# Altium footprint library pcbLib.PcbLib: 7 footprints
Each footprint in its own frame and in the unit in brackets; x right, y up, seen from the top. Pads: shape width x height; smd on the part's side, far side on the other; paste and mask are expansions set on the pad; w line width, h text height; cw(c..) or ccw(c..) is an arc to the next point about the centre after c.
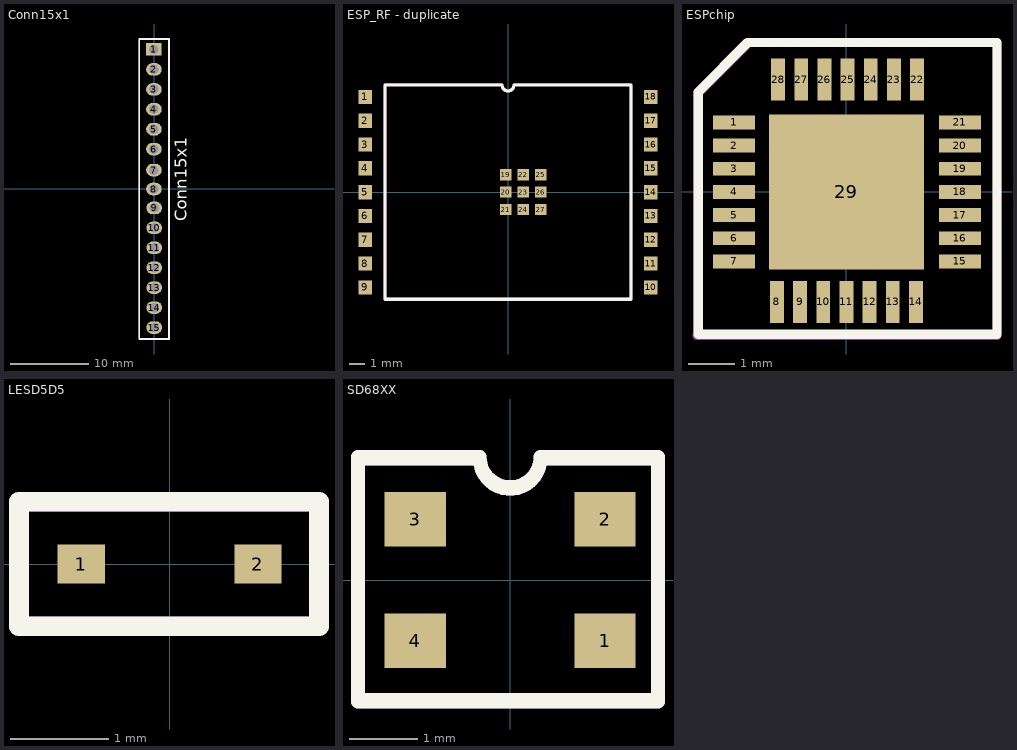
[diagram p0: the footprints below, top view; thin cyan lines are the x and y axes]

## C210CN [mm]

## Conn15x1 [mm]
pads (15):
  rect 2x1.6 hole 1.2: 1(-0.02,17.716)
  oval 2x1.6 hole 1.2: 2(-0.02,15.176) 3(-0.02,12.636) 4(-0.02,10.096) 5(-0.02,7.556) 6(-0.02,5.016) 7(-0.02,2.349) 8(-0.02,-0.064) 9(0.02,-2.476) 10(0.02,-5.016) 11(0.02,-7.556) 12(0.02,-10.096) 13(0.02,-12.636) 14(0.02,-15.176) 15(0.02,-17.716)
Top Overlay:
  lines w0.2: -1.905,-19.177 -1.905,19.05 1.905,19.05 1.905,-19.177 -1.905,-19.177
  text "Conn15x1" at 4.191,-4.191 h1.52
Top Assembly:
  lines w0.2: -1.905,-19.177 -1.905,19.05 1.905,19.05 1.905,-19.177 -1.905,-19.177
  text ".Designator" at 0.508,-7.366 h1.52
3D body "Pin Header 1x1 TH Pitch 2.54mm.stp": height 3.2, standoff -9.5, extent -1.29,-19.113 1.25,-16.573
3D body "Pin Header 1x1 TH Pitch 2.54mm.stp": height 3.2, standoff -9.5, extent -1.29,-16.573 1.25,-14.034
3D body "Pin Header 1x1 TH Pitch 2.54mm.stp": height 3.2, standoff -9.5, extent -1.29,-14.034 1.25,-11.493
3D body "Pin Header 1x1 TH Pitch 2.54mm.stp": height 3.2, standoff -9.5, extent -1.29,-11.493 1.25,-8.954
3D body "Pin Header 1x1 TH Pitch 2.54mm.stp": height 3.2, standoff -9.5, extent -1.29,-8.954 1.25,-6.413
3D body "Pin Header 1x1 TH Pitch 2.54mm.stp": height 3.2, standoff -9.5, extent -1.29,-6.413 1.25,-3.873
3D body "Pin Header 1x1 TH Pitch 2.54mm.stp": height 3.2, standoff -9.5, extent -1.29,-3.873 1.25,-1.333
3D body "Pin Header 1x1 TH Pitch 2.54mm.stp": height 3.2, standoff -9.5, extent -1.29,-1.333 1.25,1.206
3D body "Pin Header 1x1 TH Pitch 2.54mm.stp": height 3.2, standoff -9.5, extent -1.29,1.206 1.25,3.746
3D body "Pin Header 1x1 TH Pitch 2.54mm.stp": height 3.2, standoff -9.5, extent -1.29,3.746 1.25,6.286
3D body "Pin Header 1x1 TH Pitch 2.54mm.stp": height 3.2, standoff -9.5, extent -1.29,6.286 1.25,8.826
3D body "Pin Header 1x1 TH Pitch 2.54mm.stp": height 3.2, standoff -9.5, extent -1.29,8.826 1.25,11.367
3D body "Pin Header 1x1 TH Pitch 2.54mm.stp": height 3.2, standoff -9.5, extent -1.29,11.367 1.25,13.906
3D body "Pin Header 1x1 TH Pitch 2.54mm.stp": height 3.2, standoff -9.5, extent -1.29,13.906 1.25,16.447
3D body "Pin Header 1x1 TH Pitch 2.54mm.stp": height 3.2, standoff -9.5, extent -1.29,16.447 1.25,18.986

## ESP_chip [mm]

## ESP_RF - duplicate [mm]
pads (27):
  rect 0.85x0.9 smd: 1(-9,6) 2(-9,4.5) 3(-9,3) 4(-9,1.5) 5(-9,0) 6(-9,-1.5) 7(-9,-3) 8(-9,-4.5) 9(-9,-6) 10(9,-6) 11(9,-4.5) 12(9,-3) 13(9,-1.5) 14(9,0) 15(9,1.5) 16(9,3) 17(9,4.5) 18(9,6)
  rect 0.7x0.7 smd: 19(-0.14,1.1) 20(-0.14,0) 21(-0.14,-1.1) 22(0.96,1.1) 23(0.96,0) 24(0.96,-1.1) 25(2.06,1.1) 26(2.06,0) 27(2.06,-1.1)
Top Overlay:
  lines w0.2: -7.74,-6.75 -7.74,6.75 -0.375,6.75 ccw(c0,6.75) 0.375,6.75 7.74,6.75 7.74,-6.75 -7.74,-6.75
Top Assembly:
  lines w0.2: -7.74,-6.725 -7.74,6.775 -0.375,6.775 ccw(c0,6.775) 0.375,6.775 7.74,6.775 7.74,-6.725 -7.74,-6.725
3D body "ESP32-C3-WROOM-02.STEP": height 3.25, standoff -0.01, extent -9.01,-6.725 9.01,13.275

## ESPchip [mm]
pads (29):
  rect 0.9x0.3 smd paste+0 mask+0.02: 1(-2.426,1.5) 2(-2.426,1) 3(-2.426,0.5) 4(-2.426,0) 5(-2.426,-0.5) 6(-2.426,-1) 7(-2.426,-1.5) 15(2.451,-1.5) 16(2.451,-1) 17(2.451,-0.5) 18(2.451,0) 19(2.451,0.5) 20(2.451,1) 21(2.451,1.5)
  rect 0.3x0.9 smd paste+0 mask+0.02: 8(-1.5,-2.375) 9(-1,-2.375) 10(-0.5,-2.375) 11(0,-2.375) 12(0.5,-2.375) 13(1,-2.375) 14(1.5,-2.375) 22(1.525,2.426) 23(1.025,2.426) 24(0.525,2.426) 25(0.025,2.426) 26(-0.475,2.426) 27(-0.975,2.426) 28(-1.475,2.426)
  rect 3.35x3.35 smd paste+0 mask+0.02: 29(0,0)
Top Overlay:
  lines w0.2: -3.2,-3.073 3.251,-3.073 3.251,3.226 -2.134,3.226 -3.2,2.159 -3.2,-3.073
Top Assembly:
  lines w0.2: -3.225,-3.099 -3.2,-3.048 -3.2,-0.791 -3.2,2.134 -2.108,3.226 3.251,3.226 3.251,-3.099 -3.225,-3.099
3D body "QFN28_5X5_SIL.step": height 0.81, standoff 0, extent -2.515,-2.501 2.489,2.503

## LESD5D5 [mm]
pads (2):
  rect 0.48x0.4 smd: 1(-0.9,0) 2(0.9,0)
Top Overlay:
  lines w0.2: -1.535,-0.635 -1.535,0 -1.535,0.635 ; -1.524,-0.635 1.524,-0.635 1.524,0.635 -1.524,0.635
Top Assembly:
  lines w0.2: -1.535,-0.635 -1.535,0 -1.535,0.635 ; -1.524,-0.635 1.524,-0.635 1.524,0.635 -1.524,0.635
3D body: height 0.6, standoff 0.03, extent -0.686,-0.508 0.686,0.483
3D body: height 0.14, standoff 0, extent 0.686,-0.178 1.118,0.178
3D body: height 0.14, standoff 0, extent -1.118,-0.178 -0.686,0.178

## SD68XX [mm]
pads (4):
  rect 0.9x0.8 smd: 1(1.39,-0.89) 2(1.39,0.89) 3(-1.39,0.89) 4(-1.39,-0.89)
Top Overlay:
  lines w0.2: -2.228,-1.78 -2.228,1.78 -0.445,1.78 ccw(c0,1.78) 0.445,1.78 2.166,1.78 2.166,-1.78 -2.228,-1.78 ; -2.228,-1.755 -2.228,1.805 -0.445,1.805 ccw(c0,1.805) 0.445,1.805 2.166,1.805 2.166,-1.755 -2.228,-1.755
Top Assembly:
  lines w0.2: -2.228,-1.78 -2.228,1.78 -0.445,1.78 ccw(c0,1.78) 0.445,1.78 2.166,1.78 2.166,-1.78 -2.228,-1.78 ; -2.228,-1.755 -2.228,1.805 -0.445,1.805 ccw(c0,1.805) 0.445,1.805 2.166,1.805 2.166,-1.755 -2.228,-1.755
3D body "SMD3535 RGB.stp": height 1, standoff 0, extent -1.875,-1.773 1.825,1.727